# Altium footprint library QUTMS_PotentiometerLibrary.PcbLib: 1 footprints
Each footprint in its own frame and in the unit in brackets; x right, y up, seen from the top. Pads: shape width x height; smd on the part's side, far side on the other; paste and mask are expansions set on the pad; w line width, h text height; cw(c..) or ccw(c..) is an arc to the next point about the centre after c.
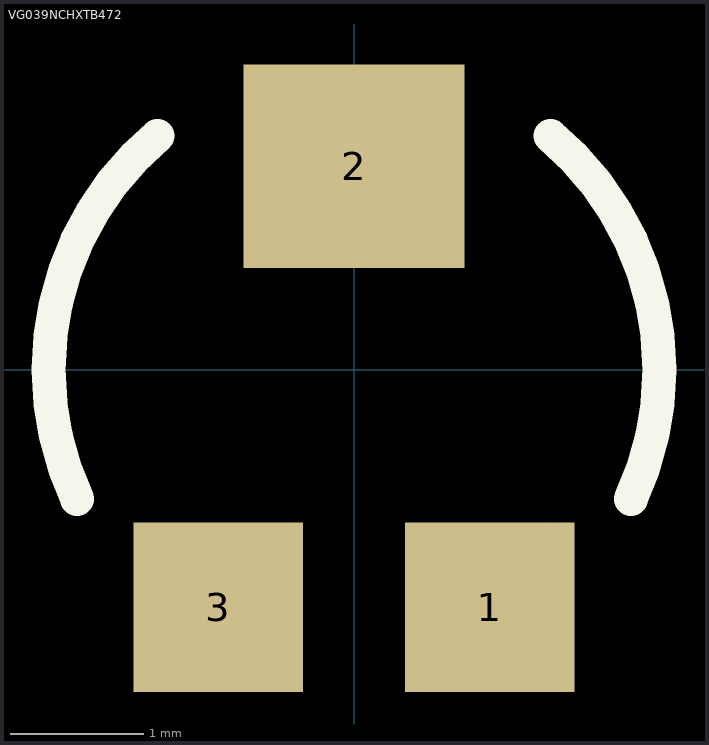
[diagram p0: the footprint, top view; thin cyan lines are the x and y axes]

## VG039NCHXTB472 [mil] "VG039NCHXTB472"
pads (3):
  rect 50x50 smd: 1(40,-70) 3(-40,-70)
  rect 65x60 smd: 2(0,60)
Top Overlay:
  lines w10: -81.57,-38.04 cw(c0,0) -57.85,68.94 ; 57.85,68.94 cw(c0,0) 81.57,-38.04
3D body: height 50, standoff 0, extent -59.76,-59.88 59.76,59.88
3D body: height 20, standoff 0, extent -59.06,-74.8 59.06,74.8